# Altium integrated library UJ2-AV-W4-TH.IntLib: 1 symbol
Pins are listed as number, name and electrical type; pins without a type are passive.

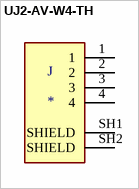
[diagram p0: symbol UJ2-AV-W4-TH]

## UJ2-AV-W4-TH
designator J
Type A, USB 2.0, 1 A, Vertical, Through Hole, USB Receptacle; MF: CUI Devices; MP: UJ2-AV-W4-TH; Value: *; Availability: Unavailable; Price: None; SnapEDA_Link: https://www.snapeda.com/parts/UJ2-AV-W4-TH/CUI%20Devices/view-part/2779627/?ref=snap; Package: None
footprint CUI_UJ2-AV-W4-TH
pins: 1, 2, 3, 4, SH1 SHIELD, SH2 SHIELD